# EAGLE library part 5569-8 (library 5569)
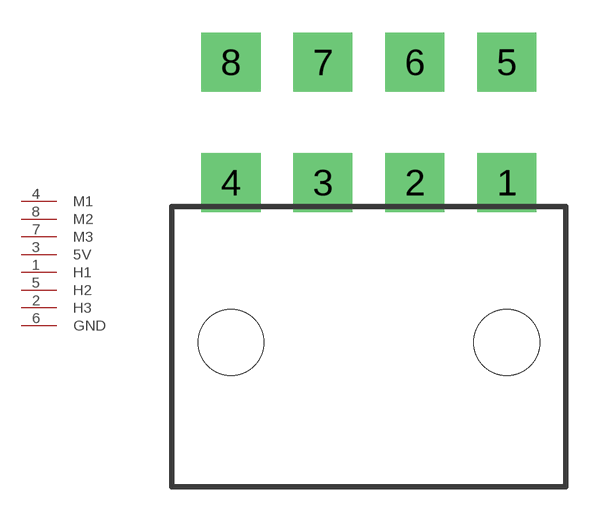
[diagram p0: symbol with the pads of 5569-8; footprint 5569-8]

Designator prefix -

## 5569-8  [5569-8]
1  H1
2  H3
3  5V
4  M1
5  H2
6  GND
7  M3
8  M2

## Footprint 5569-8 (pad centres in mm)
Mini FIT connector 8 pol Source: http://www.molex.com
drill 1.8 square: 1 6.3,5.4; 2 2.1,5.4; 3 -2.1,5.4; 4 -6.3,5.4; 5 6.3,10.9; 6 2.1,10.9; 7 -2.1,10.9; 8 -6.3,10.9
hole 3 at -6.3,-1.9
hole 3 at 6.3,-1.9